# EAGLE library part USB4155-03-C_REVA (library OTG_C)
Check prices <https://pricing.snapeda.com/parts/USB4155-03-C/Global%20Connector%20Technology/view-part?ref=eda>
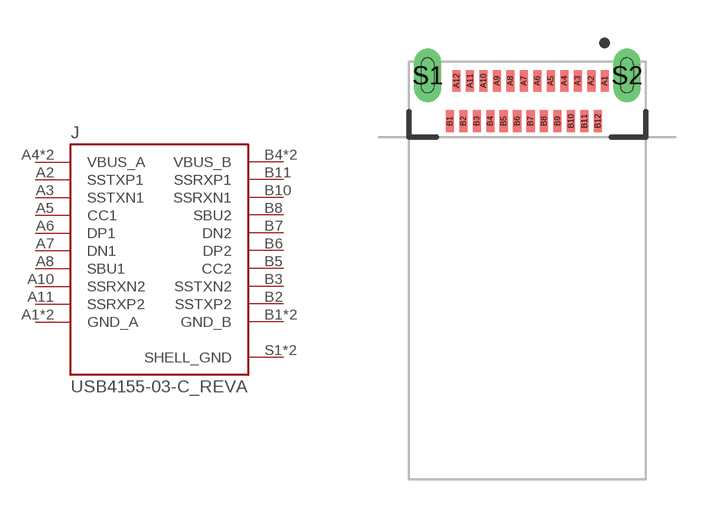
[diagram p3: symbol with the pads of GCT_USB4155-03-C_REVA; footprint GCT_USB4155-03-C_REVA]

Designator prefix J

## USB4155-03-C_REVA (AVAILABILITY: In Stock; DESCRIPTION: USB-C (USB TYPE-C) USB 3.2 Gen 2 (USB 3.1 Gen 2, Superspeed + (USB 3.1)) Plug Connector 24 Position Board Edge, Cutout; Surface Mount; Through Hole, Right Angle; MF: Global Connector Technology; MP: USB4155-03-C; PACKAGE: None; PRICE: None; PURCHASE-URL: https://pricing.snapeda.com/search/part/USB4155-03-C/?ref=eda)  [GCT_USB4155-03-C_REVA]
A1  GND_A  pwr
A2  SSTXP1
A3  SSTXN1
A4  VBUS_A  pwr
A5  CC1
A6  DP1
A7  DN1
A8  SBU1
A9  VBUS_A  pwr
A10  SSRXN2
A11  SSRXP2
A12  GND_A  pwr
B1  GND_B  pwr
B2  SSTXP2
B3  SSTXN2
B4  VBUS_B  pwr
B5  CC2
B6  DP2
B7  DN2
B8  SBU2
B9  VBUS_B  pwr
B10  SSRXN1
B11  SSRXP1
B12  GND_B  pwr
S1  SHELL_GND  pwr
S2  SHELL_GND  pwr

## Footprint GCT_USB4155-03-C_REVA (pad centres in mm)
smd 0.3 x 0.8: A1 2.875,0.75; A2 2.375,0.75; A3 1.875,0.75; A4 1.375,0.75; A5 0.875,0.75; A6 0.375,0.75; A7 -0.125,0.75; A8 -0.625,0.75; A9 -1.125,0.75; A10 -1.625,0.75; A11 -2.125,0.75; A12 -2.625,0.75; B1 -2.875,-0.75; B2 -2.375,-0.75; B3 -1.875,-0.75; B4 -1.375,-0.75; B5 -0.875,-0.75; B6 -0.375,-0.75; B7 0.125,-0.75; B8 0.625,-0.75; B9 1.125,-0.75; B10 1.625,-0.75; B11 2.125,-0.75; B12 2.625,-0.75
drill 0.5 pad 0.8 long: S1 -3.7,0.95; S2 3.7,0.95